# EAGLE library part XBEE (library Mechanical)
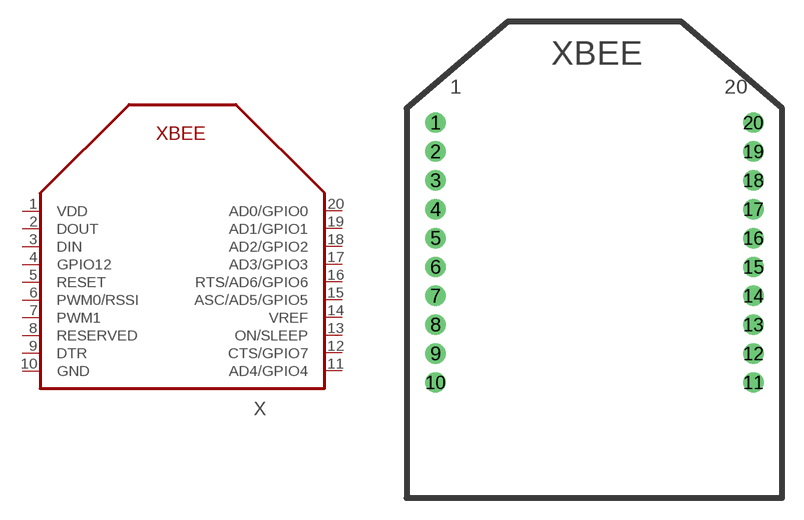
[diagram p89: symbol with the pads of XBEE_CON; footprint XBEE_CON]

Designator prefix X

## XBEE-PRO  [XBEE_CON]
1  VDD  pwr
2  DOUT  out
3  DIN  in
4  GPIO12
5  RESET
6  PWM0/RSSI
7  PWM1
8  RESERVED  nc
9  DTR
10  GND  pwr
11  AD4/GPIO4
12  CTS/GPIO7
13  ON/SLEEP
14  VREF
15  ASC/AD5/GPIO5
16  RTS/AD6/GPIO6
17  AD3/GPIO3
18  AD2/GPIO2
19  AD1/GPIO1
20  AD0/GPIO0

## Footprint XBEE_CON (pad centres in mm)
drill 0.9: 1 -11,10; 2 -11,8; 3 -11,6; 4 -11,4; 5 -11,2; 6 -11,0; 7 -11,-2; 8 -11,-4; 9 -11,-6; 10 -11,-8; 11 11,-8; 12 11,-6; 13 11,-4; 14 11,-2; 15 11,0; 16 11,2; 17 11,4; 18 11,6; 19 11,8; 20 11,10